# Altium footprint library Connectors.PcbLib: 8 footprints
Each footprint in its own frame and in the unit in brackets; x right, y up, seen from the top. Pads: shape width x height; smd on the part's side, far side on the other; paste and mask are expansions set on the pad; w line width, h text height; cw(c..) or ccw(c..) is an arc to the next point about the centre after c.
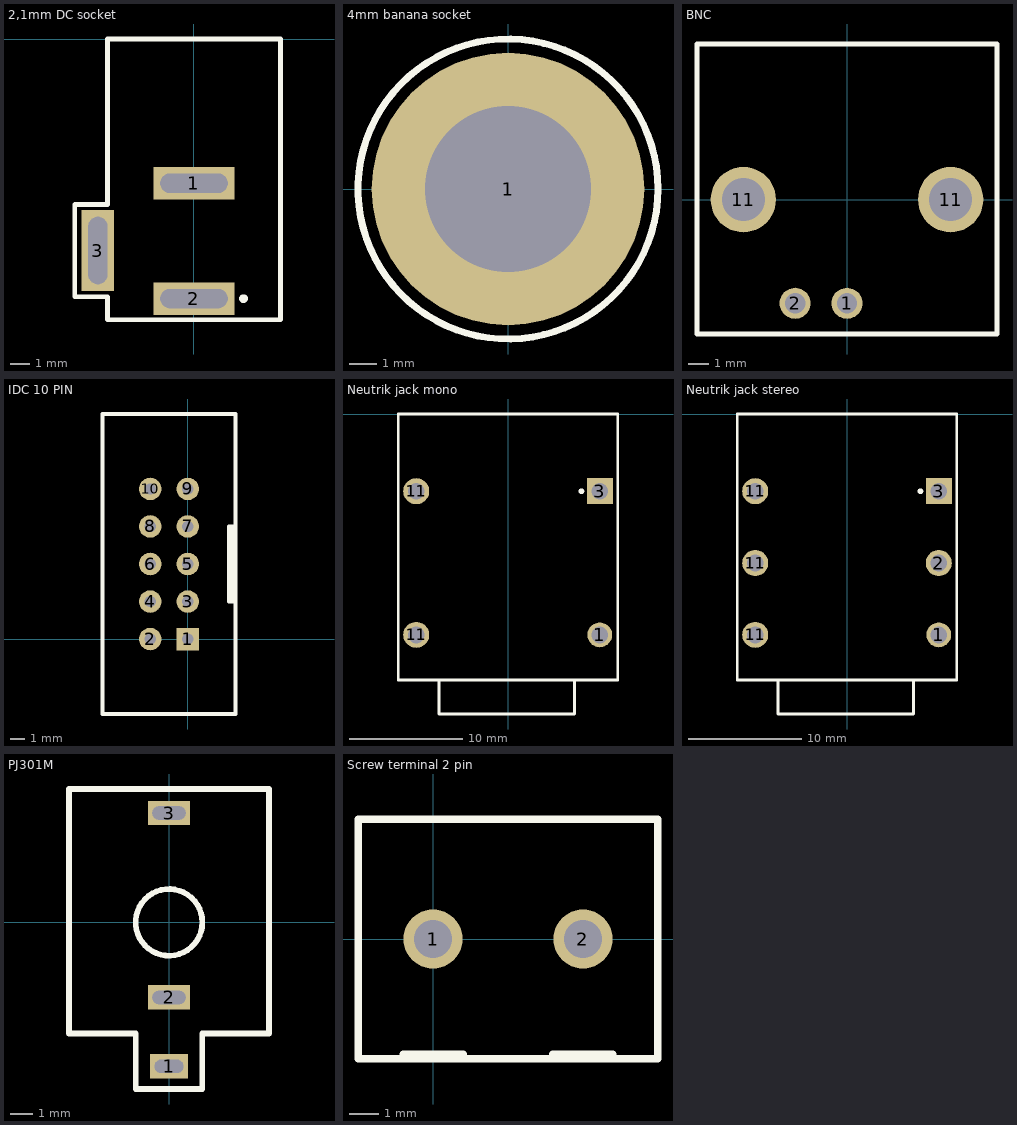
[diagram p0: the footprints below, top view; thin cyan lines are the x and y axes]

## 2,1mm DC socket [mm] "2,1 mm DC PCB mount socket"
pads (3):
  rect 4.2x1.7 hole 1 slot 3.5 at 0 deg: 1(0,-7.5) 2(0,-13.5)
  rect 1.7x4.2 hole 1 slot 3.5 at 90 deg: 3(-5,-11)
Top Overlay:
  circle w0.254: c2.575,-13.5 r0.1
  lines w0.254: -4.5,-13.4 -6.2,-13.4 -6.2,-8.6 -4.5,-8.6 -4.5,0 4.5,0 4.5,-14.6 -4.5,-14.6 -4.5,-13.4 ; -4.5,-13.4 -4.5,-13.4
3D body "DC_Power_Jack_PCB_Mounted_2.1mm.step": height 11.1, standoff -4, extent -5.125,-14.075 4.325,0.125

## 4mm banana socket [mm] "4 mm banana socket PCB mount"
pads (1):
  round 10 hole 6.1: 1(0,0)
Top Overlay:
  circle w0.254: c0,0 r5.5
3D body "4mm Black Banana Female Socket Jack Mount Connectors.step": height 9.8, standoff -5.2, extent -5.488,-11.4 5.5,5.637

## BNC [mm] "BNC socket PCB mount"
pads (4):
  round 1.524 hole 1: 1(0,-5.08) 2(-2.54,-5.08)
  round 3.2 hole 2.1: 11(-5.08,0) 11(5.08,0)
Top Overlay:
  lines w0.254: -7.35,-6.58 7.35,-6.58 7.35,7.62 -7.35,7.62 -7.35,-6.58
3D body "73100-0131.STEP": height 12.65, standoff -5.58, extent -7.38,-7.35 7.38,27.83

## IDC 10 PIN [mil] "10 PIN IDC Connector"
pads (10):
  rect 60x60 hole 30: 1(0,0)
  round 60 hole 30: 2(-100,0) 3(0,100) 4(-100,100) 5(0,200) 6(-100,200) 7(0,300) 8(-100,300) 9(0,400) 10(-100,400)
Top Overlay:
  region: 125,300 110,300 110,100 125,100
  lines w10: -227.17,-199.61 127.17,-199.61 127.17,599.61 -227.17,599.61 -227.17,-199.61 ; 110,100 125,100 125,300 110,300 110,100
3D body "DS1013-10S (IDC-10MS CONNFLY).stp": height 354.33, standoff -141.73, extent -223.23,-203.54 127.17,603.54

## Neutrik jack mono [mm] "Neutrik 6,3 mm jack mono PCB mount"
pads (4):
  round 2.2 hole 1.5: 1(8.115,-19.53)
  rect 2.3x2.3 hole 1.5: 3(8.115,-6.83)
  round 2.3 hole 1.5: 11(-8.115,-19.53) 11(-8.115,-6.83)
Top Overlay:
  circle w0.254: c6.49,-6.83 r0.127
  lines w0.254: -6.115,-23.53 -6.115,-26.53 5.885,-26.53 5.885,-23.53 ; 9.6,-23.53 -9.7,-23.53 -9.7,0 9.6,0 ; 9.7,-23.53 9.7,0
3D body "Neutrik.SLDPRT": height 15.5, standoff -7.27, extent -9.125,-26.35 9.125,6.6

## Neutrik jack stereo [mm] "Neutrik 6,3 mm jack stereo PCB mount"
pads (6):
  round 2.2 hole 1.5: 1(8.115,-19.53)
  round 2.3 hole 1.5: 2(8.115,-13.18) 11(-8.115,-19.53) 11(-8.115,-13.18) 11(-8.115,-6.83)
  rect 2.3x2.3 hole 1.5: 3(8.115,-6.83)
Top Overlay:
  circle w0.254: c6.49,-6.83 r0.127
  lines w0.254: -6.115,-23.53 -6.115,-26.53 5.885,-26.53 5.885,-23.53 ; 9.6,-23.53 -9.7,-23.53 -9.7,0 9.6,0 ; 9.7,-23.53 9.7,0
3D body "Neutrik.SLDPRT": height 15.5, standoff -7.27, extent -9.125,-26.35 9.125,6.6

## PJ301M [mm] "3,5 mm Jack mono PCB Mount"
pads (3):
  rect 1.7x1.1 hole 0.6 slot 1.3 at 0 deg: 1(0,-6.48)
  rect 1.9x1.1 hole 0.6 slot 1.5 at 0 deg: 2(0,-3.38) 3(0,4.92)
Top Overlay:
  circle w0.254: c0,0 r1.5
  lines w0.254: -4.5,-5 -4.5,6 4.5,6 4.5,-5 1.5,-5 1.5,-7.5 -1.5,-7.5 -1.5,-5 -4.5,-5
3D body "PJ301M-12_Hex_nut.step": height 14, standoff -3.55, extent -4.5,-6.73 4.5,6

## Screw terminal 2 pin [mm] "5,08 mm pitch screw terminal PCB mount"
pads (2):
  round 2 hole 1.3: 1(0,0) 2(5.08,0)
Top Overlay:
  lines w0.254: -1.016,-3.9 1.016,-3.9 ; 4.064,-3.9 6.096,-3.9 ; -2.54,-4.05 -2.54,4.05 7.62,4.05 7.62,-4.05 -2.54,-4.05